# Altium schematic symbol library TPS1HTC30AQPWPRQ1.SchLib: 1 symbol
Pins are listed as number, name and electrical type; pins without a type are passive.

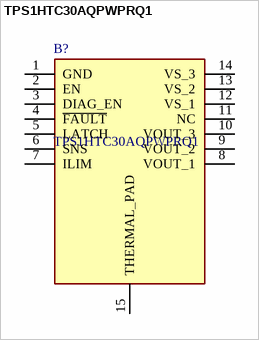
[diagram p0: symbol TPS1HTC30AQPWPRQ1]

## TPS1HTC30AQPWPRQ1
designator B?
Power Switch ICs - Power Distribution Automotive, 60-V, 6-A, 30-mO, one-channel smart high-side switch with adjustable current limit 14-HTSSOP -40 to 125; Manufacturer_Name: Texas Instruments; Geometry.Height: 1.2mm; Mouser Part Number: 595-TPS1HTC30AQPWPQ1; Mouser Price/Stock: https://www.mouser.co.uk/ProductDetail/Texas-Instruments/TPS1HTC30AQPWPRQ1?qs=ST9lo4GX8V3KvUd2Q%2FnDqA%3D%3D; Manufacturer_Part_Number: TPS1HTC30AQPWPRQ1; Datasheet Link: https://www.ti.com/lit/ds/symlink/tps1htc30-q1.pdf?ts=1723072122521
footprint SOP65P640X120-15N
pins: 1 GND, 2 EN, 3 DIAG_EN, 4 ~{FAULT}, 5 LATCH, 6 SNS, 7 ILIM, 8 VOUT_1 (power), 9 VOUT_2 (power), 10 VOUT_3 (power), 11 NC, 12 VS_1 (power), 13 VS_2 (power), 14 VS_3 (power), 15 THERMAL_PAD